# EAGLE library part 691409320007 (library WR-TBL Spring Clamp)
WR-TBL Series 4093 - Screwless Push In 3.81mm pitch - 45° cable entry - THT KIND PROPERTIES Pitch 3.81 mm MATERIAL PROPERTIES Insulator Material PA66 Insulator Flammability Rating UL94 V-0 Insulator Color Green Spring Material Stainless Steel Pin Material Brass Pin Plating Tin over Nickel GENERAL INFORMATION Operating Temperature -40 up to +115 °C ELECTRICAL PROPERTIES IR cULus 10 A IR VDE 9 A Working Voltage [cULus] 300 V Working Voltage [VDE] 130 V Withstanding Voltage [cULus] 1600 V (AC) Withstanding Voltage [VDE] 1250 V (AC) Contact Resistance [cULus] 20 mΩ Contact Resistance [VDE] 20 mΩ Mechanical Properties Wire Strip Length 8 up to 9 (mm) Wire Properties Solid Wire Section (AWG) 26 to 16 (AWG) Solid Wire Section (Metric) 0.2 to 1.5 (mm²) Stranded Wire Section (AWG) 26 to 16 (AWG) Stranded Wire Section (Metric) 0.2 to 1.5 (mm²) CERTIFICATION cULus Approval E315414 VDE Approval 40055091 Packaging Properties Packaging Box Details see: www.we-online.com/en/components/products/WR-TBL_SERIES_4093_SCREWLESS_PUSH_45_THT Created by Ella Wu 2023-06-13 2023(C) Würth Elektronik
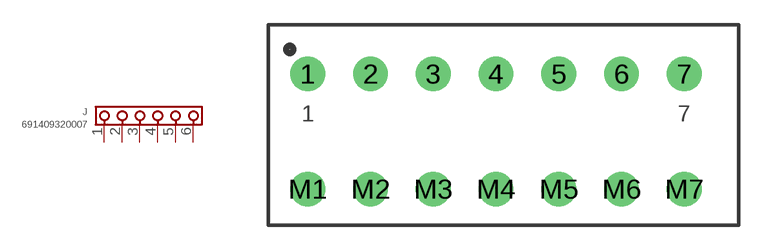
[diagram p126: symbol with the pads of 691409320007; footprint 691409320007]

Designator prefix J

## 691409320007 (APPLICATION: Screwless Push In; DATASHEET: https://www.we-online.com/redexpert/spec/691409320007?ae; IR-UL: 10A; MODULARITY: Yes; MOUNT: THT; PART-NUMBER: 691409320007; PINS: 7; PITCH: 3.81mm; TYPE: 45°; VALUE: 691409320007; WIRE: 26 to 16 (AWG) 0.2 to 1.5 (mm²); WORKING-VOLTAGE-UL: 300V)  [691409320007]
1  1  pas
2  2  pas
3  3  pas
4  4  pas
5  5  pas
6  6  pas

## Footprint 691409320007 (pad centres in mm)
WR-TBL Series 4093 - Screwless Push In 3.81mm pitch - 45° cable entry - THT Pitch 3.81mm, THT, 7pins
drill 1.4: 1 -11.43,3.5; 2 -7.62,3.5; 3 -3.81,3.5; 4 0,3.5; 5 3.81,3.5; 6 7.62,3.5; 7 11.43,3.5; M1 -11.43,-3.5; M2 -7.62,-3.5; M3 -3.81,-3.5; M4 0,-3.5; M5 3.81,-3.5; M6 7.62,-3.5; M7 11.43,-3.5